# Altium schematic symbol library BM04B-GHS-TBT_LF__SN_.SchLib: 1 symbol
Pins are listed as number, name and electrical type; pins without a type are passive.

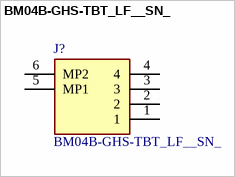
[diagram p0: symbol BM04B-GHS-TBT_LF__SN_]

## BM04B-GHS-TBT_LF__SN_
designator J?
GH Series 1.25 mm Pitch 4 Position Single Row Top Entry Shrouded Header; Manufacturer_Name: JST (JAPAN SOLDERLESS TERMINALS); Manufacturer_Part_Number: BM04B-GHS-TBT(LF)(SN); Geometry.Height: 4.2mm; Mouser Part Number: 306-BM04BGHSTBTLFSNN; Mouser Price/Stock: https://www.mouser.co.uk/ProductDetail/JST-Commercial/BM04B-GHS-TBTLFSN?qs=cdbOS8ANM9DuBD4arU9XYQ%3D%3D; Datasheet Link: https://g.componentsearchengine.com/ga/3Dstep
footprint BM04BGHSTBTLFSN
pins: 1, 2, 3, 4, 5 MP1, 6 MP2